# EAGLE library part REF3450TIDBVR (library REF3450TIDBVR)
Voltage References 5-V, low-drift, low-power, small-footprint series voltage reference Source: Datasheet <https://www.ti.com/lit/ds/symlink/ref3450.pdf?ts=1625451766832&ref_url=https%3A%2F%2Fwww.ti.com%2Fsitesearch%2Fdocs%2Funiversalsearch.tsp%3FlangPref%3Den-US%26searchTerm%3DREF3450TIDBVR%26nr%3D7>
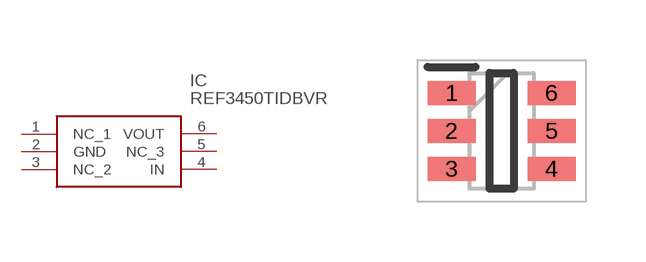
[diagram p0: symbol with the pads of SOT95P280X145-6N; footprint SOT95P280X145-6N]

Designator prefix IC

## REF3450TIDBVR (Description: Voltage References 5-V, low-drift, low-power, small-footprint series voltage reference; Height: 1.45mm; Manufacturer_Name: Texas Instruments; Manufacturer_Part_Number: REF3450TIDBVR; Mouser_Part_Number: 595-REF3450TIDBVR; Mouser_Price-Stock: https://www.mouser.co.uk/ProductDetail/Texas-Instruments/REF3450TIDBVR?qs=QNEnbhJQKvaJ9wk9nNLvXA%3D%3D)  [SOT95P280X145-6N]
1  NC_1
2  GND
3  NC_2
4  IN
5  NC_3
6  VOUT

## Footprint SOT95P280X145-6N (pad centres in mm)
DBV (R-PDSO-G6)
smd 1.2 x 0.6: 1 -1.25,0.95; 2 -1.25,0; 3 -1.25,-0.95; 4 1.25,-0.95; 5 1.25,0; 6 1.25,0.95